# EAGLE library part DEV-16771 (library Teensy4.1)
RT1062 Teensy 4.1 i.MX ARM Cortex-M7 MPU Embedded Evaluation Board Check availability <https://pricing.snapeda.com/parts/DEV-16771/SparkFun%20Electronics/view-part?ref=eda>
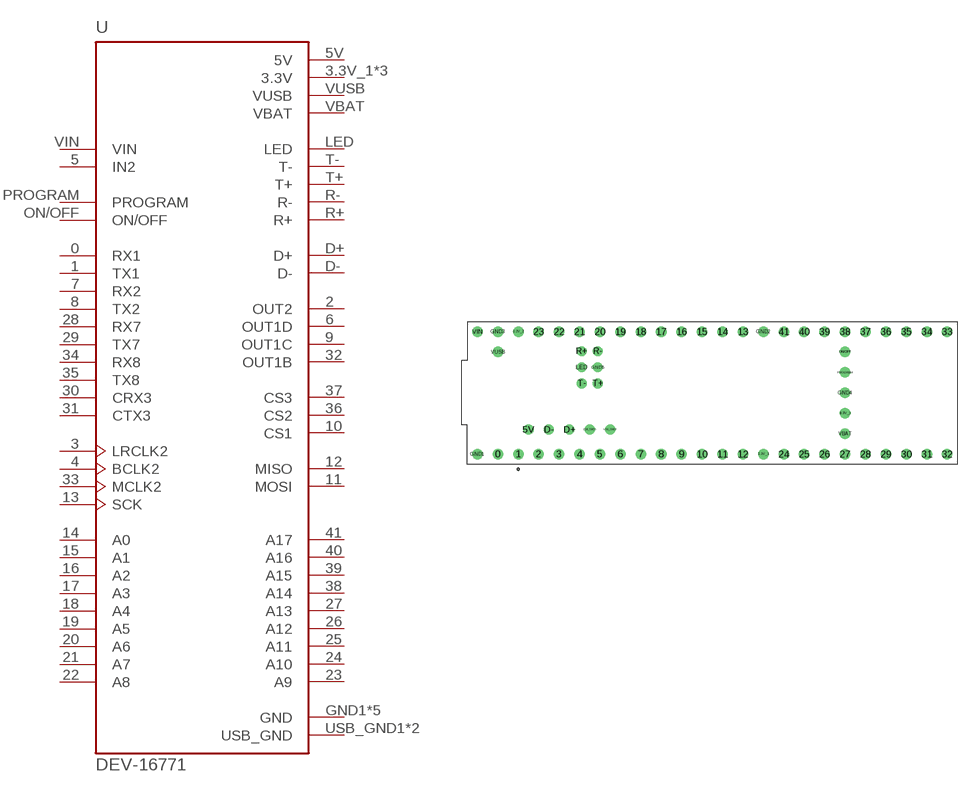
[diagram p0: symbol with the pads of MODULE_DEV-16771; footprint MODULE_DEV-16771]

Designator prefix U

## DEV-16771 (Availability: In Stock; Description: RT1062 Teensy 4.1 series ARM® Cortex®-M7 MPU Embedded Evaluation Board; MF: SparkFun Electronics; MP: DEV-16771; Package: None; Price: None; Purchase-URL: https://pricing.snapeda.com/search?q=DEV-16771&ref=eda)  [MODULE_DEV-16771]
0  RX1
1  TX1
2  OUT2  out
3  LRCLK2
3.3V_1  3.3V  pwr
3.3V_2  3.3V  pwr
3.3V_3  3.3V  pwr
4  BCLK2
5  IN2
5V  5V  pwr
6  OUT1D  out
7  RX2
8  TX2
9  OUT1C  out
10  CS1
11  MOSI
12  MISO
13  SCK
14  A0
15  A1
16  A2
17  A3
18  A4
19  A5
20  A6
21  A7
22  A8
23  A9
24  A10
25  A11
26  A12
27  A13
28  RX7
29  TX7
30  CRX3
31  CTX3
32  OUT1B  out
33  MCLK2
34  RX8
35  TX8
36  CS2
37  CS3
38  A14
39  A15
40  A16
41  A17
D+  D+
D-  D-
GND1  GND  pwr
GND2  GND  pwr
GND3  GND  pwr
GND4  GND  pwr
GND5  GND  pwr
LED  LED
ON/OFF  ON/OFF
PROGRAM  PROGRAM
R+  R+
R-  R-
T+  T+
T-  T-
USB_GND1  USB_GND  pwr
USB_GND2  USB_GND  pwr
VBAT  VBAT  pas
VIN  VIN  in
VUSB  VUSB  pas

## Footprint MODULE_DEV-16771 (pad centres in mm)
drill 0.8: 0 -26.67,-7.62; 1 -24.13,-7.62; 2 -21.59,-7.62; 3 -19.05,-7.62; 3.3V_1 6.35,-7.62; 3.3V_2 -24.13,7.62; 3.3V_3 16.51,-2.54; 4 -16.51,-7.62; 5 -13.97,-7.62; 6 -11.43,-7.62; 7 -8.89,-7.62; 8 -6.35,-7.62; 9 -3.81,-7.62; 10 -1.27,-7.62; 11 1.27,-7.62; 12 3.81,-7.62; 13 3.81,7.62; 14 1.27,7.62; 15 -1.27,7.62; 16 -3.81,7.62; 17 -6.35,7.62; 18 -8.89,7.62; 19 -11.43,7.62; 20 -13.97,7.62; 21 -16.51,7.62; 22 -19.05,7.62; 23 -21.59,7.62; 24 8.89,-7.62; 25 11.43,-7.62; 26 13.97,-7.62; 27 16.51,-7.62; 28 19.05,-7.62; 29 21.59,-7.62; 30 24.13,-7.62; 31 26.67,-7.62; 32 29.21,-7.62; 33 29.21,7.62; 34 26.67,7.62; 35 24.13,7.62; 36 21.59,7.62; 37 19.05,7.62; 38 16.51,7.62; 39 13.97,7.62; 40 11.43,7.62; 41 8.89,7.62; GND1 -29.21,-7.62; GND2 6.35,7.62; GND3 -26.67,7.62; GND4 16.51,0; ON/OFF 16.51,5.08; PROGRAM 16.51,2.54; VBAT 16.51,-5.08; VIN -29.21,7.62; VUSB -26.67,5.08
drill 0.75: 5V -22.86,-4.57; D+ -17.78,-4.57; D- -20.32,-4.57; USB_GND1 -15.24,-4.57; USB_GND2 -12.7,-4.57
drill 0.7: GND5 -14.24,3.17; LED -16.24,3.17; R+ -16.24,5.17; R- -14.24,5.17; T+ -14.24,1.17; T- -16.24,1.17